# EAGLE library part MAX4173 (library KwanSystems)
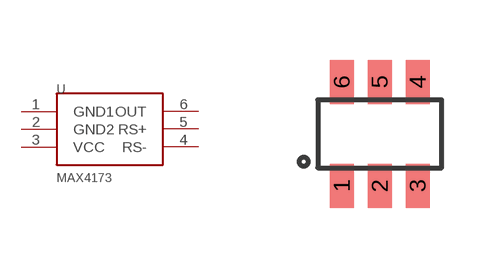
[diagram p2: symbol with the pads of SOT-23-6; footprint SOT-23-6]

Designator prefix -

## MAX4173  [SOT-23-6]
1  GND1
2  GND2
3  VCC
4  RS-
5  RS+
6  OUT

## Footprint SOT-23-6 (pad centres in mm)
smd 0.6 x 1.1: 1 -0.95,-1.3; 2 0,-1.3; 3 0.95,-1.3; 4 0.95,1.3; 5 0,1.3; 6 -0.95,1.3